# Altium footprint library leds.PcbLib: 51 footprints (part 4 of 4)
Each footprint in its own frame and in the unit in brackets; x right, y up, seen from the top. Pads: shape width x height; smd on the part's side, far side on the other; paste and mask are expansions set on the pad; w line width, h text height; cw(c..) or ccw(c..) is an arc to the next point about the centre after c.
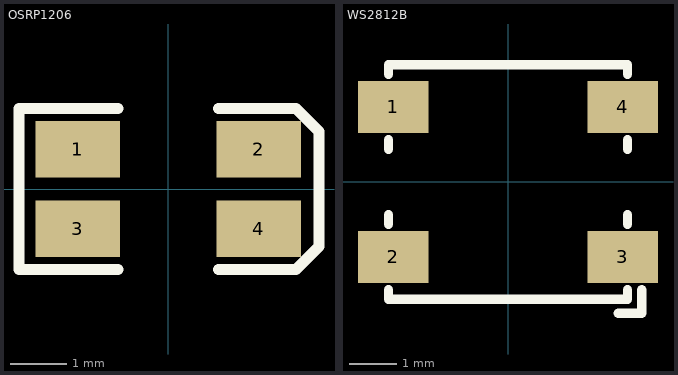
[diagram p3: the footprints below, top view; thin cyan lines are the x and y axes]

## OSRP1206 [mm]
height 1.1
pads (4):
  rect 1.5x1 smd: 1(-1.6,0.7) 2(1.6,0.7) 3(-1.6,-0.7) 4(1.6,-0.7)
Top Overlay:
  lines w0.2: -0.889,-1.425 -2.642,-1.425 -2.642,1.425 -0.889,1.425 ; 0.889,-1.425 2.258,-1.425 2.667,-1.016 2.667,1.016 2.258,1.425 0.889,1.425
3D body: height 1.1, standoff 0.5, extent -1,-1.35 1,1.35
3D body: height 0.5, standoff 0, extent -1.6,-1.35 1.6,1.35

## PCBComponent_1 [mm]
3D body "DLA-6.STEP": height 11.4, standoff -11.5, extent -11.42,-7.5 11.421,10

## WS2812B [mm] "WS2812B Addressable RGB LED"
height 1
pads (4):
  rect 1.5x1.1 smd: 1(-2.45,1.6) 2(-2.45,-1.6) 3(2.45,-1.6) 4(2.45,1.6)
Top Overlay:
  lines w0.2: -2.55,-2.3 -2.55,-2.5 2.55,-2.5 2.55,-2.3 ; -2.55,-0.9 -2.55,-0.7 ; -2.55,0.7 -2.55,0.9 ; -2.55,2.3 -2.55,2.5 2.55,2.5 2.55,2.3 ; 0.65,-2.5 1.35,-2.5 ; 2.35,-2.8 2.85,-2.8 2.85,-2.7 2.85,-2.3 ; 2.55,-0.9 2.55,-0.7 ; 2.55,0.7 2.55,0.9
3D body "5050B.STEP": height 1.6, standoff 0, extent -2.65,-2.5 2.65,2.5